# EAGLE library part TALEMA10VA (library toslink)
TALEMA 10VA transformer
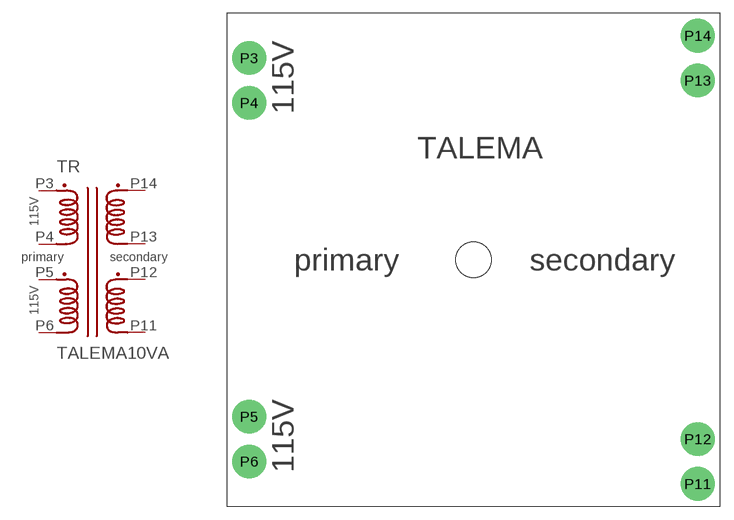
[diagram p8: symbol with the pads of TALEMA10VA; footprint TALEMA10VA]

Designator prefix TR

## TALEMA10VA  [TALEMA10VA]
P3  P3  pas
P4  P4  pas
P5  P5  pas
P6  P6  pas
P11  S11  pas
P12  S12  pas
P13  S13  pas
P14  S14  pas

## Footprint TALEMA10VA (pad centres in mm)
TALEMA 10VA transformer
drill 1.2 pad 3.81: P3 -25.4,22.86; P4 -25.4,17.78; P5 -25.4,-17.78; P6 -25.4,-22.86; P11 25.4,-25.4; P12 25.4,-20.32; P13 25.4,20.32; P14 25.4,25.4
hole 4 at 0,0